# Altium footprint library JE.PcbLib: 1 footprints
Each footprint in its own frame and in the unit in brackets; x right, y up, seen from the top. Pads: shape width x height; smd on the part's side, far side on the other; paste and mask are expansions set on the pad; w line width, h text height; cw(c..) or ccw(c..) is an arc to the next point about the centre after c.
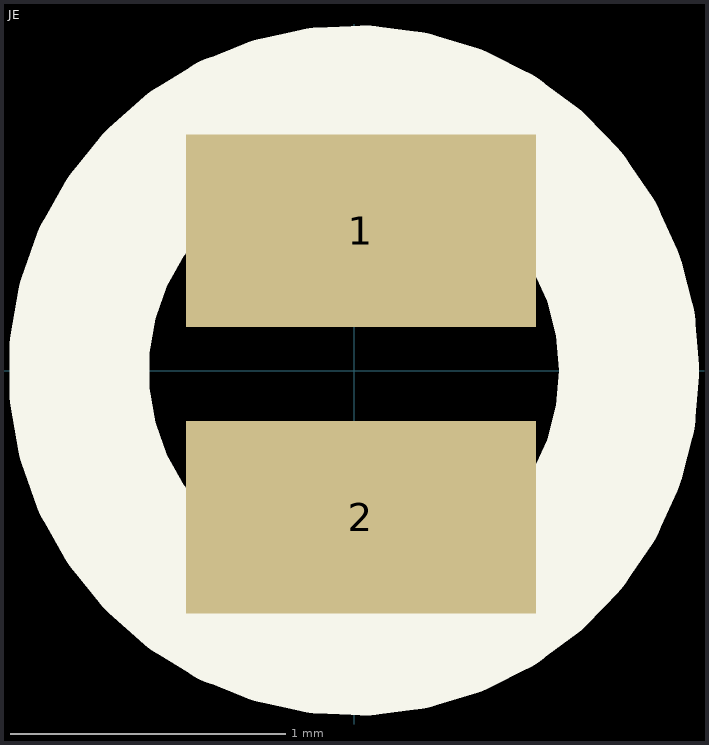
[diagram p0: the footprint, top view; thin cyan lines are the x and y axes]

## JE [mil] "Solder_jumper"
pads (2):
  rect 50x27.56 smd: 1(1,20) 2(1,-21)
Top Overlay:
  circle w20: c0,0 r39.37